# EAGLE library part A6H-01 (library switch-dil)
DIP SWITCH
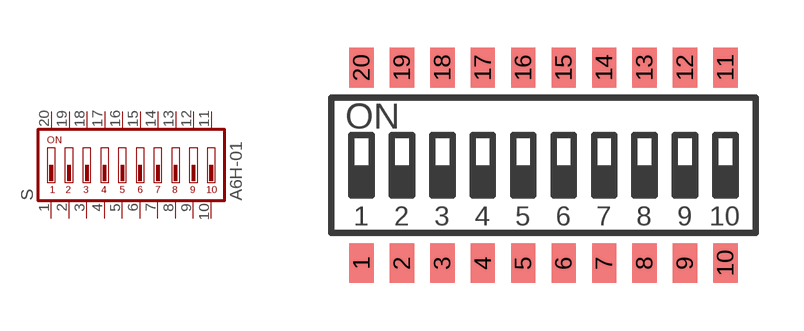
[diagram p70: symbol with the pads of A6H-01; footprint A6H-01]

Designator prefix S

## A6H-01  [A6H-01]
1  1  pas
2  2  pas
3  3  pas
4  4  pas
5  5  pas
6  6  pas
7  7  pas
8  8  pas
9  9  pas
10  10  pas
11  11  pas
12  12  pas
13  13  pas
14  14  pas
15  15  pas
16  16  pas
17  17  pas
18  18  pas
19  19  pas
20  20  pas

## Footprint A6H-01 (pad centres in mm)
DIP SWITCH Omron A6H Series
smd 0.76 x 1.25: 1 -5.715,-3.075; 2 -4.445,-3.075; 3 -3.175,-3.075; 4 -1.905,-3.075; 5 -0.635,-3.075; 6 0.635,-3.075; 7 1.905,-3.075; 8 3.175,-3.075; 9 4.445,-3.075; 10 5.715,-3.075; 11 5.715,3.075; 12 4.445,3.075; 13 3.175,3.075; 14 1.905,3.075; 15 0.635,3.075; 16 -0.635,3.075; 17 -1.905,3.075; 18 -3.175,3.075; 19 -4.445,3.075; 20 -5.715,3.075